# Altium schematic symbol library BAS40.SchLib: 1 symbol
Pins are listed as number, name and electrical type; pins without a type are passive.

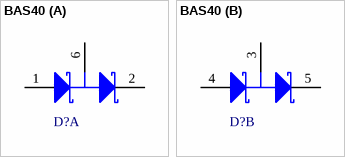
[diagram p0: symbol BAS40]

## BAS40
designator D?, comment BAS40DW-04-TP  (value not drawn)
Diode, Schottky, 40 V, 0.2 A, SOT-363
part A pins: 1 A1, 2 C1, 6 AC1
part B pins: 3 AC2, 4 A2, 5 C2
1 alternate drawing of the same symbol